# Altium footprint library SL_Capacitors_Electrolytic.PcbLib: 2 footprints
Each footprint in its own frame and in the unit in brackets; x right, y up, seen from the top. Pads: shape width x height; smd on the part's side, far side on the other; paste and mask are expansions set on the pad; w line width, h text height; cw(c..) or ccw(c..) is an arc to the next point about the centre after c.
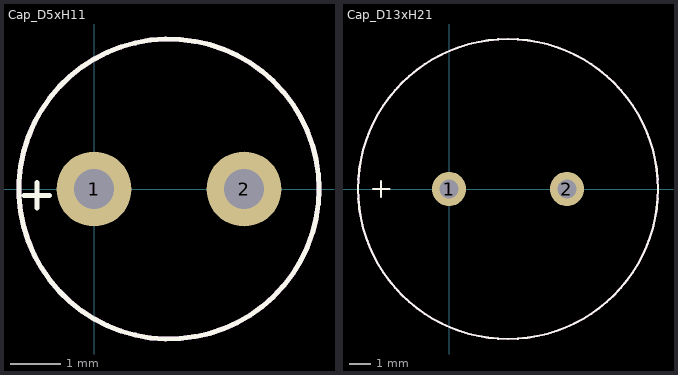
[diagram p0: the footprints below, top view; thin cyan lines are the x and y axes]

## Cap_D5xH11 [mm]
pads (2):
  round 1.5 hole 0.8: 1(0,0) 2(3,0)
Top Overlay:
  circle w0.1: c1.5,0 r3
  lines w0.1: -1.397,-0.127 -0.889,-0.127 ; -1.143,-0.381 -1.143,0.127
Mechanical 13:
  circle w0.1: c1.5,0 r3
Mechanical 15:
  circle w0.1: c1.5,0 r3
3D body "Cap_D5xH11.STEP": height 11.1, standoff -4.9, extent -1,-2.5 4,2.5

## Cap_D13xH21 [mm]
pads (2):
  round 1.6 hole 0.9: 1(0,0) 2(5.5,0)
Top Overlay:
  circle w0.1: c2.75,0 r7
  lines w0.1: -3.556,0 -2.794,0 ; -3.175,-0.381 -3.175,0.381
Mechanical 13:
  circle w0.1: c2.75,0 r7
Mechanical 15:
  circle w0.1: c2.75,0 r7
3D body "Cap_D13xH21.STEP": height 21.1, standoff -4.9, extent -3.737,-6.5 9.237,6.5